# Altium schematic symbol library SCH - CHARGER - MICROCHIP MCP73831.SCHLIB: 1 symbol
Pins are listed as number, name and electrical type; pins without a type are passive.

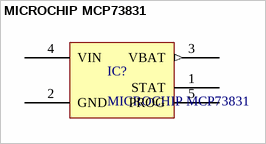
[diagram p0: symbol MICROCHIP MCP73831]

## MICROCHIP MCP73831
designator IC?
Miniature Single-Cell, Fully integrated Li-Ion, Li-Polymer charge management controllers
pins: 1 STAT, 2 GND, 3 VBAT (out), 4 VIN, 5 PROG